# EAGLE library part 0603X4RESISTOR (library user)
工房に落ちていた集合抵抗 トレランス、精級などふめい。金属皮膜だし基本性能いいと思う
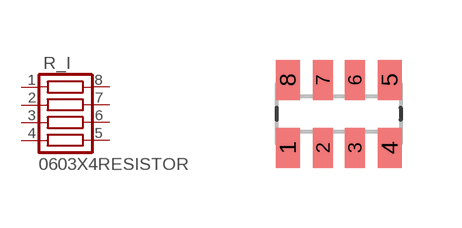
[diagram p18: symbol with the pads of 0603X4RESISTOR; footprint 0603X4RESISTOR]

Designator prefix R_I

## 0603X4RESISTOR  [0603X4RESISTOR]
1  1  pas
2  2  pas
3  3  pas
4  4  pas
5  5  pas
6  6  pas
7  7  pas
8  8  pas

## Footprint 0603X4RESISTOR (pad centres in mm)
Chip Resistor Array 0603x4 4 resistors in 3.2 mm x 1.6 mm size (EXB38V, V8V) Source: PANASONIC .. aoc0000ce1.pdf
smd 0.6 x 1: 1 -1.275,-0.85; 4 1.275,-0.85; 5 1.275,0.85; 8 -1.275,0.85
smd 0.5 x 1: 2 -0.4,-0.85; 3 0.4,-0.85; 6 0.4,0.85; 7 -0.4,0.85